# EAGLE library part REG710NA-5/250 (library REG710NA-5_250)
Check prices <https://pricing.snapeda.com/parts/REG710NA-5/250/Texas%20Instruments/view-part?ref=eda>
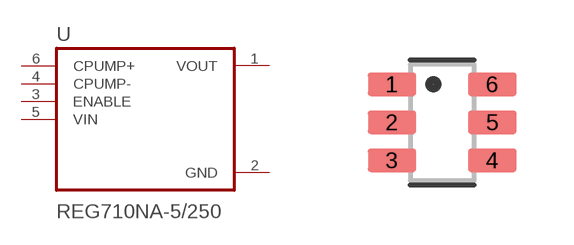
[diagram p0: symbol with the pads of SOT95P280X145-6N; footprint SOT95P280X145-6N]

Designator prefix U

## REG710NA-5/250 (AVAILABILITY: In Stock; DESCRIPTION: 30-mA Switched-Cap DC-DC Converter with fixed 5-V Output 6-SOT-23 -40 to 85; MF: Texas Instruments; MP: REG710NA-5/250; PACKAGE: SOT-23-6 Texas Instruments; PRICE: None; PURCHASE-URL: https://pricing.snapeda.com/search/part/REG710NA-5/250/?ref=eda)  [SOT95P280X145-6N]
1  VOUT  out
2  GND  pwr
3  ENABLE  in
4  CPUMP-  in
5  VIN  in
6  CPUMP+  in

## Footprint SOT95P280X145-6N (pad centres in mm)
smd 1.21 x 0.58: 1 -1.255,0.95; 2 -1.255,0; 3 -1.255,-0.95; 4 1.255,-0.95; 5 1.255,0; 6 1.255,0.95